# Altium schematic symbol library 284697-E.SchLib: 1 symbol
Pins are listed as number, name and electrical type; pins without a type are passive.

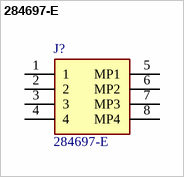
[diagram p0: symbol 284697-E]

## 284697-E
designator J?
PCB Mount Header, Vertical, Cable-to-Board, 4 Position, 1.27 mm [.05 in] Centerline, Fully Shrouded, Gold (Au), Surface Mount, ERNI MiniBridge; Manufacturer_Name: TE Connectivity; Geometry.Height: 6.1mm; Mouser Part Number: 305-284697; Mouser Price/Stock: https://www.mouser.co.uk/ProductDetail/TE-Connectivity-ERNI/284697-E?qs=t7xnP681wgXF7Zyqlk%252B7cQ%3D%3D; Manufacturer_Part_Number: 284697-E; Datasheet Link: https://www.te.com/commerce/DocumentDelivery/DDEController?Action=showdoc&DocId=Customer+Drawing%7F284697-E%7FF%7Fpdf%7FEnglish%7FENG_CD_284697-E_F.pdf%7F284697-E
footprint 284697E
pins: 1, 2, 3, 4, 5 MP1, 6 MP2, 7 MP3, 8 MP4